# Altium footprint library schematic.PcbLib: 16 footprints
Each footprint in its own frame and in the unit in brackets; x right, y up, seen from the top. Pads: shape width x height; smd on the part's side, far side on the other; paste and mask are expansions set on the pad; w line width, h text height; cw(c..) or ccw(c..) is an arc to the next point about the centre after c.
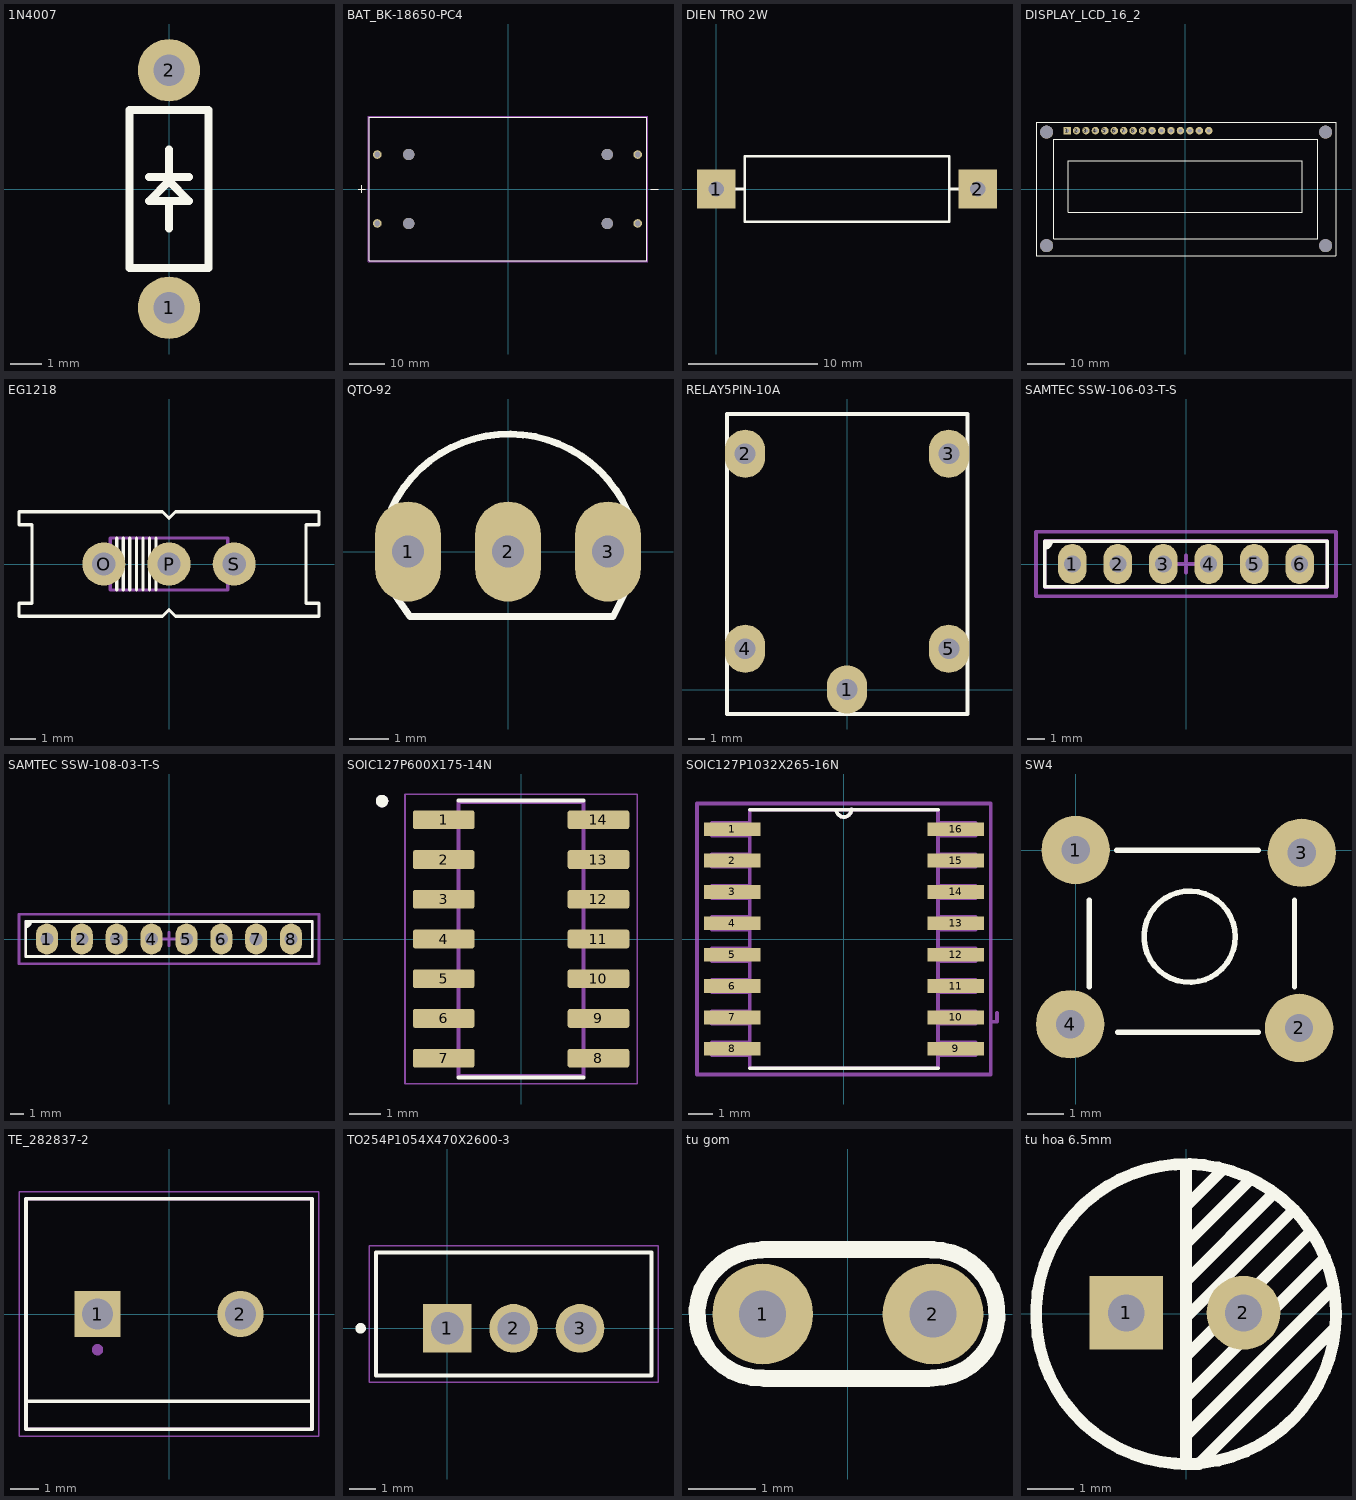
[diagram p0: the footprints below, top view; thin cyan lines are the x and y axes]

## 1N4007 [mm] "Rectifier Diode 1000V 1A DO-41"
pads (2):
  round 2 hole 1: 1(0,-3.81) 2(0,3.81)
Top Overlay:
  lines w0.254: -0.635,0.381 0.635,0.381 ; 0,-1.27 0,-0.381 ; 0,0.381 0,1.27 ; 0,-0.381 0.635,-0.381 0,0.254 -0.635,-0.381 0,-0.381 ; -1.27,-2.54 -1.27,2.54 1.27,2.54 1.27,-2.54 -1.27,-2.54
3D body "1N4007 (7,62mm).step": height 3.35, standoff -24.61, extent -1.35,-4.191 1.35,4.289

## BAT_BK-18650-PC4 [mm]
pads (8):
  round 2.4 hole 1.6: 1+(-36.6,9.65) 1-(36.3,9.65) 2+(-36.6,-9.65) 2-(36.3,-9.65)
  round 3.2 hole 3.2 unplated: ""(-27.81,-9.65) ""(-27.81,9.65) ""(27.81,-9.65) ""(27.81,9.65)
Top Overlay:
  lines w0.127: -42,0 -40,0 ; -41,-1 -41,1 ; 40,0 42,0 ; -38.85,-20.105 -38.85,20.105 38.85,20.105 38.85,-20.105 -38.85,-20.105
Mechanical 13:
  lines w0.127: -42,0 -40,0 ; -41,-1 -41,1 ; 40,0 42,0 ; -38.85,-20.105 -38.85,20.105 38.85,20.105 38.85,-20.105 -38.85,-20.105
Mechanical 15:
  lines w0.05: -39.1,-20.355 -39.1,20.355 39.1,20.355 39.1,-20.355 -39.1,-20.355

## DIEN TRO 2W [mm]
pads (2):
  rect 3x3 hole 1.2: 1(0,0) 2(20.32,0)
Top Overlay:
  lines w0.203: 2.222,-2.54 2.222,2.54 ; 2.222,-2.54 18.098,-2.54 ; 2.222,-2.54 2.222,2.54 ; 2.222,-2.54 18.098,-2.54 ; 2.222,2.54 18.098,2.54 ; 2.222,2.54 18.098,2.54 ; 18.098,-2.54 18.098,2.54 ; 18.098,-2.54 18.098,2.54 ; 1.27,0 2.222,0 1.27,0 ; 18.098,0 19.05,0 18.098,0
3D body: height 5.08, standoff 0, extent 2.222,-2.54 18.098,2.54

## DISPLAY_LCD_16_2 [mm]
height 8.51
pads (20):
  rect 2x2 hole 1: 1(-31.782,15.743)
  round 2 hole 1: 2(-29.242,15.743) 3(-26.702,15.743) 4(-24.162,15.743) 5(-21.622,15.743) 6(-19.082,15.743) 7(-16.542,15.743) 8(-14.002,15.743) 9(-11.462,15.743) 10(-8.922,15.743) 11(-6.382,15.743) 12(-3.842,15.743) 13(-1.302,15.743) 14(1.238,15.743) 15(3.778,15.743) 16(6.318,15.743)
  round 3.5 hole 3.5 unplated: ""(-37.283,-15.158) ""(-37.283,15.342) ""(37.717,-15.158) ""(37.717,15.342)
Top Overlay:
  lines w0.254: -40.132,-17.907 -40.132,18.034 40.513,18.034 40.513,-17.907 -40.132,-17.907 ; -35.338,-13.343 -35.338,13.457 35.662,13.457 35.662,-13.343 -35.338,-13.343 ; -31.528,-6.185 -31.528,7.615 31.472,7.615 31.472,-6.185 -31.528,-6.185
3D body "DISPLAY_LCD_16_2.STEP": height 12, standoff -10.8, extent -40.132,-17.966 40.567,18.034

## EG1218 [mil]
pads (3):
  round 66 hole 35.43: O(-100,0) P(0,0) S(100,0)
Top Overlay:
  lines w5: -80,-40 -80,40 ; -70,-40 -70,40 ; -60,-40 -60,40 ; -50,-40 -50,40 ; -40,-40 -40,40 ; -30,-40 -30,40 ; -20,-40 -20,40 ; -230,-80 -10,-80 0,-70 10,-80 230,-80 230,-60 210,-60 210,60 230,60 230,80 10,80 0,70 -10,80 -230,80 -230,60 -210,60 -210,-60 -230,-60 -230,-80
Mechanical 13:
  lines w5: -90,-40 90,-40 90,40 -90,40 -90,-40
3D body "step_temp.STEP": height 78.74, standoff -78.74, extent -228.35,-275.59 228.35,200.79

## QTO-92 [mil] "TO-92"
height 200
pads (3):
  oval 66x100 hole 32: 1(-100,0) 2(0,0) 3(100,0)
Top Overlay:
  lines w7: -116.52,43.21 cw(c0.97,-12.43) 119.94,39.97 ; -115.34,-40.24 -98,-65 105,-65 118,-39
3D body "SW3dPS-TO92.STEP": height 245.04, standoff -199.79, extent -108.87,-65.56 108.86,95

## RELAY5PIN-10A [mm]
height 8.51
pads (5):
  oval 2.5x3 hole 1.3: 1(0,0) 2(-6.35,14.7) 3(6.35,14.7) 4(-6.35,2.54) 5(6.35,2.54)
Top Overlay:
  lines w0.254: -7.493,-1.524 7.507,-1.524 7.507,17.176 -7.493,17.176 -7.493,-1.524
3D body: height 16, standoff 0, extent -7.493,-1.524 7.493,17.145

## SAMTEC SSW-106-03-T-S [mm]
height 8.51
pads (6):
  oval 1.6x2.25 hole 0.95: 1(-6.35,0) 2(-3.81,0) 3(-1.27,0) 4(1.27,0) 5(3.81,0) 6(6.35,0)
Top Overlay:
  region: -7.88,1.27 -7.54,1.27 -7.54,1.1 -7.74,0.9 -7.88,0.9
  lines w0.2: -7.88,0.9 ccw(c-7.88,1.24) -7.54,1.24 -7.54,1.27 ; -7.88,-1.27 -7.88,1.27 7.88,1.27 7.88,-1.27 -7.88,-1.27
Mechanical 13:
  lines w0.2: -7.88,-1.3 7.88,-1.3 7.88,1.3 -7.88,1.3 -7.88,-1.3
Mechanical 15:
  lines w0.2: -0.5,0 0.5,0 ; 0,-0.5 0,0.5 ; -8.38,-1.8 -8.38,1.8 8.38,1.8 8.38,-1.8 -8.38,-1.8
3D body "Samtec-SSW-106-03-T-S.STEP": height 8.51, standoff -10.01, extent -7.874,-1.206 7.874,1.207

## SAMTEC SSW-108-03-T-S [mm]
height 8.51
pads (8):
  oval 1.6x2.25 hole 0.95: 1(-8.89,0) 2(-6.35,0) 3(-3.81,0) 4(-1.27,0) 5(1.27,0) 6(3.81,0) 7(6.35,0) 8(8.89,0)
Top Overlay:
  region: -10.42,1.27 -10.08,1.27 -10.08,1.1 -10.28,0.9 -10.42,0.9
  lines w0.2: -10.42,0.9 ccw(c-10.42,1.24) -10.08,1.24 -10.08,1.27 ; -10.42,-1.27 -10.42,1.27 10.42,1.27 10.42,-1.27 -10.42,-1.27
Mechanical 13:
  lines w0.2: -10.42,-1.3 10.42,-1.3 10.42,1.3 -10.42,1.3 -10.42,-1.3
Mechanical 15:
  lines w0.2: -0.5,0 0.5,0 ; 0,-0.5 0,0.5 ; -10.92,-1.8 -10.92,1.8 10.92,1.8 10.92,-1.8 -10.92,-1.8
3D body "Samtec-SSW-108-03-T-S.STEP": height 8.51, standoff -10.01, extent -10.414,-1.206 10.414,1.207

## SOIC127P600X175-14N [mm]
pads (14):
  rrect25% 1.97x0.6 smd: 1(-2.475,3.81) 2(-2.475,2.54) 3(-2.475,1.27) 4(-2.475,0) 5(-2.475,-1.27) 6(-2.475,-2.54) 7(-2.475,-3.81) 8(2.475,-3.81) 9(2.475,-2.54) 10(2.475,-1.27) 11(2.475,0) 12(2.475,1.27) 13(2.475,2.54) 14(2.475,3.81)
Top Overlay:
  circle w0.2: c-4.445,4.41 r0.1
  lines w0.127: -2,-4.43 2,-4.43 ; -2,4.43 2,4.43
Mechanical 13:
  circle w0.2: c-4.445,4.41 r0.1
  lines w0.127: -2,-4.375 2,-4.375 2,4.375 -2,4.375 -2,-4.375
Mechanical 15:
  lines w0.05: -3.71,-4.625 3.71,-4.625 3.71,4.625 -3.71,4.625 -3.71,-4.625

## SOIC127P1032X265-16N [mil]
height 335.04
pads (16):
  rect 90x22 smd: 1(-178,175) 2(-178,125) 3(-178,75) 4(-178,25) 5(-178,-25) 6(-178,-75) 7(-178,-125) 8(-178,-175) 9(178,-175) 10(178,-125) 11(178,-75) 12(178,-25) 13(178,25) 14(178,75) 15(178,125) 16(178,175)
Top Overlay:
  lines w6: -150,-206 150,-206 ; -150,206 -12,206 150,206 ; -12,206.08 ccw(c0,206.5) 12,206.92
Mechanical 13:
  lines w6: -12,206.08 ccw(c0,206.5) 12,206.92 ; 234,-118 234,-132 244,-132 244,-118 ; -210,-185 -210,-165 -150,-165 -150,-185 -210,-185 ; -210,-135 -210,-115 -150,-115 -150,-135 -210,-135 ; -210,-85 -210,-65 -150,-65 -150,-85 -210,-85 ; -210,-35 -210,-15 -150,-15 -150,-35 -210,-35 ; -210,15 -210,35 -150,35 -150,15 -210,15 ; -210,65 -210,85 -150,85 -150,65 -210,65 ; -210,115 -210,135 -150,135 -150,115 -210,115 ; -210,165 -210,185 -150,185 -150,165 -210,165 ; -150,-206 150,-206 150,206 -12,206 -150,206 -150,-206 ; 150,-185 150,-165 210,-165 210,-185 150,-185 ; 150,-135 150,-115 210,-115 210,-135 150,-135 ; 150,-85 150,-65 210,-65 210,-85 150,-85 ; 150,-35 150,-15 210,-15 210,-35 150,-35 ; 150,15 150,35 210,35 210,15 150,15 ; 150,65 150,85 210,85 210,65 150,65 ; 150,115 150,135 210,135 210,115 150,115 ; 150,165 150,185 210,185 210,165 150,165
Mechanical 15:
  lines w6: -234,-216 234,-216 234,216 -234,216 -234,-216

## SW4 [mil] "SW button 4pin, 250 x250 mil"
height 100
pads (4):
  round 75 hole 31: 1(0,0) 2(245,-195) 3(248,-3) 4(-6,-191)
Top Overlay:
  circle w6: c125,-95 r50
  lines w6: 15,-150 15,-55 ; 45,0 200,0 ; 46,-200 200,-200 ; 240,-150 240,-55
  lines w7: 239,-215 240,-214
3D body "SW3dPS-.STEP": height 275.59, standoff -137.8, extent -35.51,-220 275.51,24.09

## TE_282837-2 [mm]
pads (2):
  rect 1.65x1.65 / inner round 1.65 / far side rect 1.65x1.65 hole 1.1: 1(-2.54,0)
  round 1.65 hole 1.1: 2(2.54,0)
Top Overlay:
  lines w0.127: -5.08,-3.1 -5.08,-4.1 5.08,-4.1 5.08,-3.1 ; -5.08,-3.1 -5.08,4.1 5.08,4.1 5.08,-3.1 ; -5.08,-3.1 5.08,-3.1
Mechanical 13:
  circle w0.2: c-2.54,-1.27 r0.1
  lines w0.127: -5.08,-4.1 5.08,-4.1 5.08,4.1 -5.08,4.1 -5.08,-4.1
Mechanical 15:
  lines w0.05: -5.33,-4.35 5.33,-4.35 5.33,4.35 -5.33,4.35 -5.33,-4.35
3D body "step_temp.STEP": height 10, standoff -3.5, extent -5.68,-4.1 5.08,4.1

## TO254P1054X470X2600-3 [mm]
pads (3):
  rect 1.86x1.86 / inner round 1.86 / far side rect 1.86x1.86 hole 1.24: 1(0,0)
  round 1.86 hole 1.24: 2(2.54,0) 3(5.08,0)
Top Overlay:
  circle w0.2: c-3.31,0 r0.1
  lines w0.152: -2.73,-1.8 -2.73,2.9 7.81,2.9 7.81,-1.8 -2.73,-1.8
Mechanical 13:
  lines w0.127: -2.73,-1.8 -2.73,2.9 7.81,2.9 7.81,-1.8 -2.73,-1.8
Mechanical 15:
  lines w0.05: -2.98,-2.052 8.06,-2.052 8.06,3.148 -2.98,3.148 -2.98,-2.052
3D body "step_temp.STEP": height 15.75, standoff -14.27, extent -4.985,-4.445 4.985,0

## tu gom [mm] "Tu gom mini"
pads (2):
  round 1.5 hole 0.7: 1(-1.27,0) 2(1.27,0)
Top Overlay:
  lines w0.254: -1.285,0.955 ccw(c-1.295,0) -1.27,-0.954 ; -1.27,0.965 1.27,0.965 ; -1.245,-0.965 1.194,-0.965 ; 1.245,0.954 cw(c1.27,0) 1.259,-0.955
3D body "User Library-Cap 100n.step": height 6.12, standoff -1.8, extent -2.918,-0.848 2.921,0.848

## tu hoa 6.5mm [mm]
pads (2):
  rect 1.6x1.6 hole 0.8: 1(-1.295,0.025)
  round 1.6 hole 0.8: 2(1.245,0.025)
Top Overlay:
  circle w0.254: c0,0 r3.25
  lines w0.254: -0.076,-3.251 0.279,-3.251 3.2,-0.33 ; 0,-3.2 0,3.175 ; 0,-2.642 3.15,0.508 ; 0,-1.905 0,-1.803 2.997,1.194 ; 0,-0.965 0,-0.914 2.667,1.753 ; 0,-0.152 0,-0.076 2.286,2.21 ; 0,0.559 0,0.711 1.88,2.591 ; 0,1.473 0,1.524 1.346,2.87 ; 0,2.108 0,2.337 0.762,3.099 ; 0,2.134 0,2.388
3D body "Cap electro 6_3x11x2_5mm.step": height 14.55, standoff 0.01, extent -3.15,-3.15 3.201,3.201